# Altium footprint library 接插件.PCBLIB: 113 footprints (part 1 of 8)
Each footprint in its own frame and in the unit in brackets; x right, y up, seen from the top. Pads: shape width x height; smd on the part's side, far side on the other; paste and mask are expansions set on the pad; w line width, h text height; cw(c..) or ccw(c..) is an arc to the next point about the centre after c.
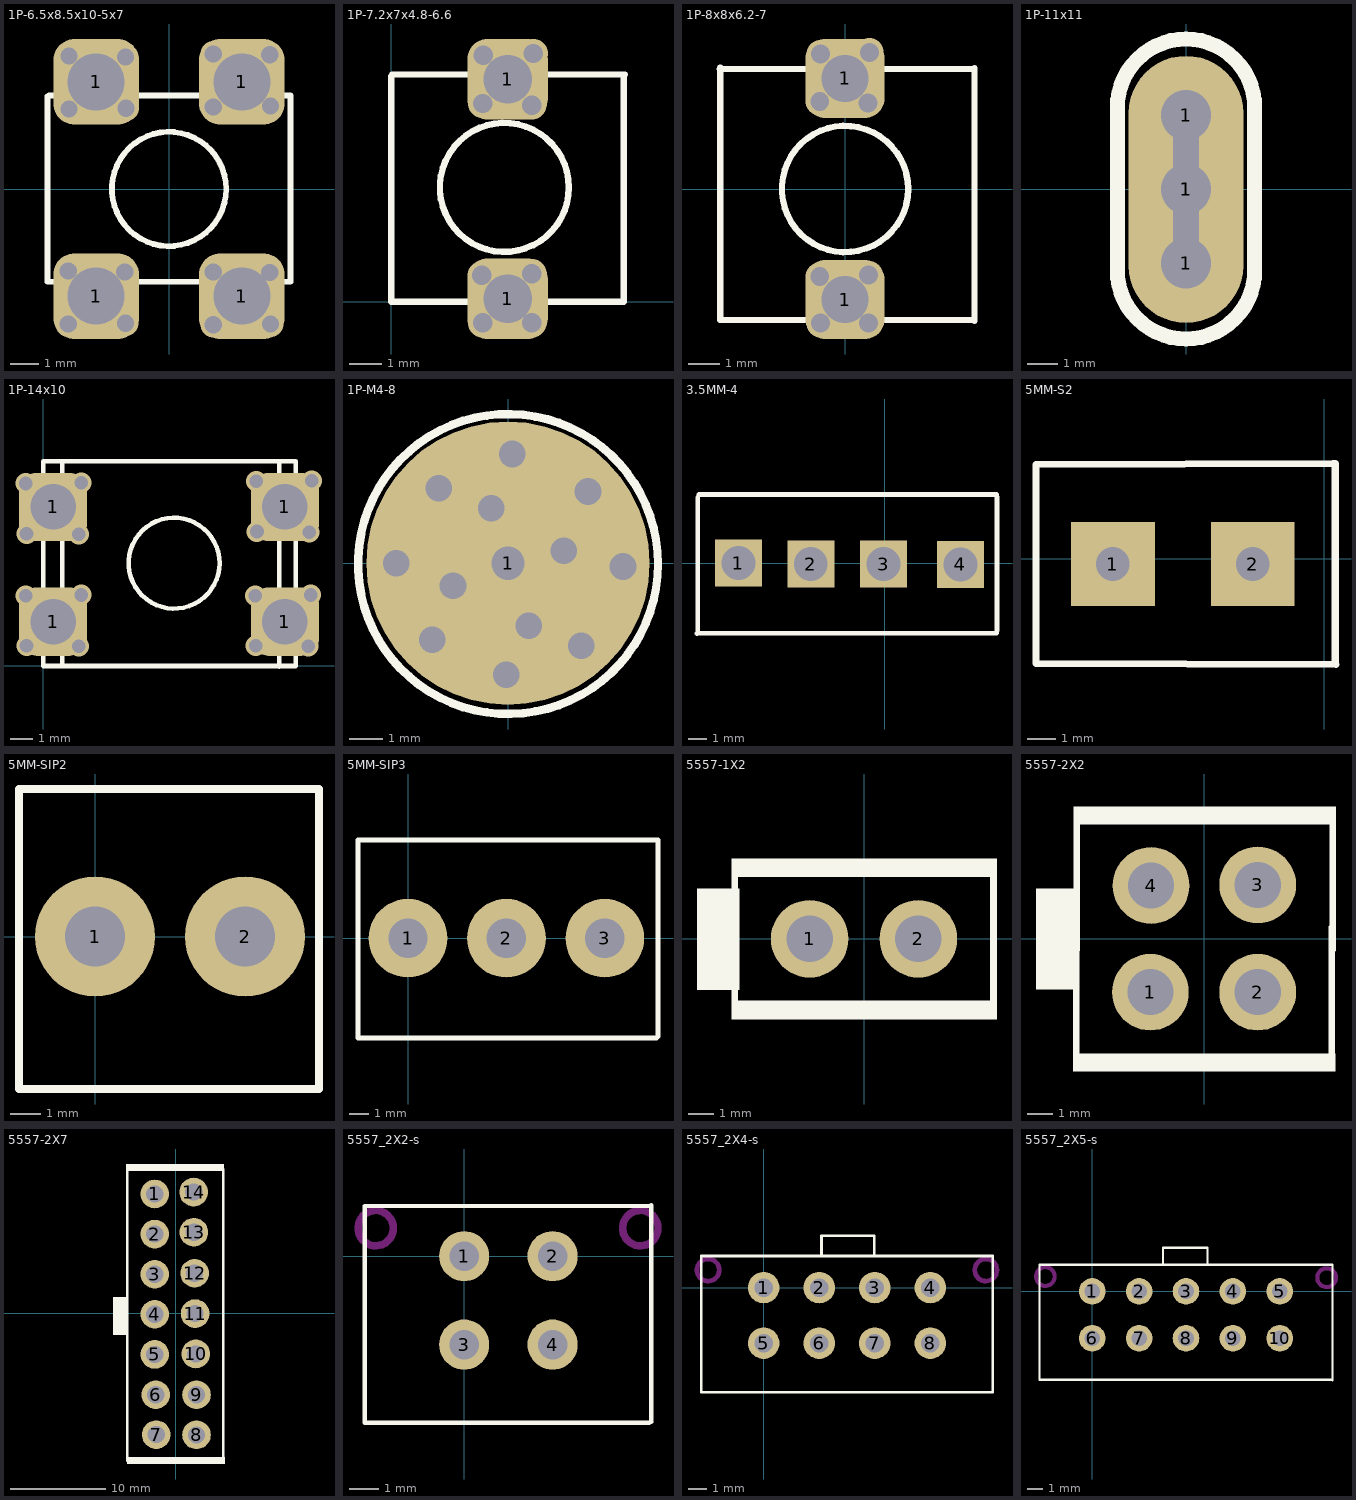
[diagram p0: the footprints below, top view; thin cyan lines are the x and y axes]

## 1P-6.5x8.5x10-5x7 [mm]
pads (4):
  rrect50% 3x3 hole 2: 1(-2.55,-3.75) 1(-2.55,3.75) 1(2.55,-3.75) 1(2.55,3.75)
via 1.55,4.725 diameter 0.9 hole 0.6
via 3.525,4.7 diameter 0.9 hole 0.6
via 1.55,2.875 diameter 0.9 hole 0.6
via 3.55,2.9 diameter 0.9 hole 0.6
via -3.5,4.65 diameter 0.9 hole 0.6
via -1.525,4.625 diameter 0.9 hole 0.6
via -3.5,2.8 diameter 0.9 hole 0.6
via -1.5,2.825 diameter 0.9 hole 0.6
via -3.525,-2.875 diameter 0.9 hole 0.6
via -1.55,-2.9 diameter 0.9 hole 0.6
via -3.525,-4.725 diameter 0.9 hole 0.6
via -1.525,-4.7 diameter 0.9 hole 0.6
via 1.55,-2.9 diameter 0.9 hole 0.6
via 3.525,-2.925 diameter 0.9 hole 0.6
via 1.55,-4.75 diameter 0.9 hole 0.6
via 3.55,-4.725 diameter 0.9 hole 0.6
TopOverlay:
  circle w0.2: c0,0 r2
  lines w0.2: -4.25,3.25 -4.25,-3.25 4.25,-3.25 4.25,3.25 ; -4.2,3.275 4.25,3.275

## 1P-7.2x7x4.8-6.6 [mm]
pads (2):
  rrect50% 2.5x2.5 hole 1.5: 1(3.6,6.9) 1(3.6,0.1)
via 4.35,6.1 diameter 0.9 hole 0.6
via 2.825,6.15 diameter 0.9 hole 0.6
via 4.4,7.7 diameter 0.9 hole 0.6
via 2.85,7.65 diameter 0.9 hole 0.6
via 4.35,-0.65 diameter 0.9 hole 0.6
via 2.825,-0.65 diameter 0.9 hole 0.6
via 4.35,0.875 diameter 0.9 hole 0.6
via 2.8,0.825 diameter 0.9 hole 0.6
TopOverlay:
  circle w0.2: c3.5,3.55 r2
  lines w0.2: 0,7 0,0 7.2,0 7.2,7 ; 0.025,7.05 7.225,7.05

## 1P-8x8x6.2-7 [mm]
pads (2):
  rrect50% 2.5x2.5 hole 1.5: 1(0,3.5) 1(0,-3.5)
via 0.725,2.725 diameter 0.9 hole 0.6
via -0.8,2.775 diameter 0.9 hole 0.6
via 0.775,4.325 diameter 0.9 hole 0.6
via -0.775,4.275 diameter 0.9 hole 0.6
via 0.75,-4.25 diameter 0.9 hole 0.6
via -0.775,-4.25 diameter 0.9 hole 0.6
via 0.75,-2.725 diameter 0.9 hole 0.6
via -0.8,-2.775 diameter 0.9 hole 0.6
TopOverlay:
  circle w0.2: c0,0 r2
  lines w0.2: -3.975,3.8 4.025,3.8 ; -3.95,3.85 -3.95,-4.15 4.05,-4.15 ; 4.1,-4.175 4.1,3.825

## 1P-11x11 [mil]
height 47.24
pads (4):
  round 120 hole 66.14: 1(0,-97) 1(0,0) 1(0,97)
  oval 150x350 hole 33.46 slot 196.85 at 90 deg: 1(0,0)
TopOverlay:
  lines w19.68: -90,-106 ccw(c0,-106) 90,-106 90,107 ccw(c0,107) -90,107 -90,-106

## 1P-14x10 [mm]
pads (4):
  rrect50% 3x3 hole 2: 1(0.425,1.95) 1(0.425,7) 1(10.625,1.95) 1(10.625,7)
via 1.668,3.126 diameter 0.9 hole 0.6
via 9.32,3.097 diameter 0.9 hole 0.6
via 1.551,0.861 diameter 0.9 hole 0.6
via 9.35,0.89 diameter 0.9 hole 0.6
via -0.773,8.032 diameter 0.9 hole 0.6
via 1.668,8.061 diameter 0.9 hole 0.6
via -0.744,5.826 diameter 0.9 hole 0.6
via 1.551,5.797 diameter 0.9 hole 0.6
via -0.773,3.097 diameter 0.9 hole 0.6
via -0.744,0.89 diameter 0.9 hole 0.6
via 11.762,3.126 diameter 0.9 hole 0.6
via 11.644,0.861 diameter 0.9 hole 0.6
via 9.365,8.121 diameter 0.9 hole 0.6
via 11.806,8.15 diameter 0.9 hole 0.6
via 9.394,5.915 diameter 0.9 hole 0.6
via 11.689,5.886 diameter 0.9 hole 0.6
TopOverlay:
  circle w0.2: c5.75,4.525 r2
  lines w0.2: 0.825,0 0.825,9 ; 10.375,-0.025 10.375,8.975 ; 0,0 0,9 11.1,9 11.1,0 0,0

## 1P-M4-8 [mm]
height 1.2
pads (1):
  round 8.5 smd: 1(0,0)
via 0,0 diameter 1.5 hole 1
via 0.125,3.275 diameter 1.2 hole 0.8
via -0.05,-3.35 diameter 1.2 hole 0.8
via 3.45,-0.1 diameter 1.2 hole 0.8
via -3.35,0 diameter 1.2 hole 0.8
via -2.075,2.25 diameter 1.2 hole 0.8
via 2.4,2.15 diameter 1.2 hole 0.8
via 2.2,-2.475 diameter 1.2 hole 0.8
via -2.275,-2.3 diameter 1.2 hole 0.8
via -0.5,1.65 diameter 1.2 hole 0.8
via 1.675,0.375 diameter 1.2 hole 0.8
via -1.65,-0.675 diameter 1.2 hole 0.8
via 0.625,-1.875 diameter 1.2 hole 0.8
TopOverlay:
  circle w0.254: c0,-0.025 r4.5

## 3.5MM-4 [mm]
pads (4):
  rect 2.5x2.5 hole 1.8: 1(-7.775,0) 2(-3.925,-0.05) 3(-0.05,-0.05) 4(4.025,-0.075)
TopOverlay:
  lines w0.254: -9.975,-3.75 5.95,-3.725 ; -9.938,-3.608 -9.938,3.504 ; -9.875,3.65 5.95,3.65 ; 5.975,-3.587 5.975,3.525

## 5MM-S2 [mm]
pads (2):
  rect 3x3 hole 1.2: 1(-7.551,-0.188) 2(-2.551,-0.188)
TopOverlay:
  lines w0.254: -10.3,-3.737 -10.3,3.375 ; -10.25,-3.75 0.425,-3.775 ; -10.25,3.375 0.325,3.4 ; 0.4,-3.712 0.4,3.4

## 5MM-SIP2 [mm]
pads (2):
  round 4 hole 2: 1(0,0) 2(5,0)
TopOverlay:
  lines w0.254: -2.54,-5.08 -2.54,4.92 7.46,4.92 7.46,-5.08 -2.54,-5.08

## 5MM-SIP3 [mm]
pads (3):
  round 4 hole 2: 1(0,0) 2(5,0) 3(10,0)
TopOverlay:
  lines w0.254: -2.54,-5.08 12.62,-5.08 ; -2.54,-5 -2.54,5 12.62,5 ; 12.7,-5 12.7,5

## 5557-1X2 [mm]
height 2.54
pads (2):
  round 3 hole 1.8: 1(-2.1,0) 2(2.1,0)
TopOverlay:
  rectangle: -6.452,-1.983 -4.801,1.954
  region: 5.137,-2.4 -5.125,-2.4 -5.125,-3.111 5.137,-3.111
  rectangle: -5.125,2.389 5.137,3.1
  lines w0.254: -5,-2.517 -5,2.537 ; -4.864,-2.517 5,-2.517 5,2.537 ; -4.864,2.537 4.975,2.525

## 5557-2X2 [mm]
height 2.54
pads (4):
  round 3 hole 1.8: 1(-2.1,-2.1) 2(2.1,-2.1) 3(2.1,2.1) 4(-2.075,2.075)
TopOverlay:
  rectangle: -6.576,-1.987 -4.925,1.95
  region: 5.137,-4.5 -5.125,-4.5 -5.125,-5.211 5.137,-5.211
  rectangle: -5.1,4.464 5.162,5.175
  lines w0.254: -5,-4.617 -5,0.437 ; -4.975,-0.442 -4.975,4.612 ; -4.864,-4.617 5,-4.617 5,0.437 ; -4.839,4.612 5,4.6 ; 5.025,-0.442 5.025,4.612

## 5557-2X7 [mm]
height 2.54
pads (14):
  round 3 hole 1.8: 1(-2.187,12.512) 2(-2.187,8.313) 3(-2.187,4.112) 4(-2.187,-0.088) 5(-2.187,-4.287) 6(-2.087,-8.513) 7(-2.037,-12.688) 8(2.188,-12.712) 9(2.188,-8.513) 10(2.113,-4.237) 11(2.038,-0.012) 12(1.988,4.212) 13(1.913,8.513) 14(1.888,12.712)
TopOverlay:
  region: 5.187,-15.05 -5.075,-15.05 -5.075,-15.761 5.187,-15.761
  rectangle: -5.2,14.939 5.062,15.65
  rectangle: -6.576,-2.237 -4.925,1.7
  lines w0.254: -5.075,-15.4 -5.075,14.95 ; -4.939,15.087 4.9,15.075 ; -4.814,-15.167 5.05,-15.167 ; 4.975,-15.15 4.975,15.125

## 5557_2X2-s [mm]
pads (4):
  round 1.7 hole 1: 1(0,0) 2(3,0) 3(0,-3) 4(3,-3)
TopOverlay:
  lines w0.15: -3.375,1.7 -3.375,-5.65 6.275,-5.65 ; -3.365,1.7 6.275,1.7 ; 6.35,-5.625 6.35,1.725
KeepOutLayer:
  circle w0.254: c5.975,0.95 r0.6
  circle w0.254: c-3,0.95 r0.6

## 5557_2X4-s [mm]
pads (8):
  round 1.7 hole 1: 1(0,0) 2(3,0) 3(6,0) 4(9,0) 5(0,-3) 6(3,-3) 7(6,-3) 8(9,-3)
TopOverlay:
  lines w0.15: -3.375,1.7 -3.375,-5.65 12.365,-5.65 ; -3.365,1.7 12.375,1.7 ; 3.125,1.725 3.125,2.8 5.975,2.8 5.975,1.7 ; 12.375,-5.625 12.375,1.725
KeepOutLayer:
  circle w0.254: c12,0.95 r0.6
  circle w0.254: c-3,0.95 r0.6

## 5557_2X5-s [mm]
pads (10):
  round 1.7 hole 1: 1(0,0) 2(3,0) 3(6,0) 4(9,0) 5(12,0) 6(0,-3) 7(3,-3) 8(6,-3) 9(9,-3) 10(12,-3)
TopOverlay:
  lines w0.15: -3.375,1.7 -3.375,-5.65 15.35,-5.65 ; -3.365,1.7 15.35,1.7 ; 4.525,1.725 4.525,2.8 7.375,2.8 7.375,1.7 ; 15.375,-5.7 15.375,1.65
KeepOutLayer:
  circle w0.254: c15,0.875 r0.6
  circle w0.254: c-3,0.95 r0.6